# Altium schematic symbol library ADC10080_EVALUATION_BOARD.SchLib: 10 symbols
Pins are listed as number, name and electrical type; pins without a type are passive.

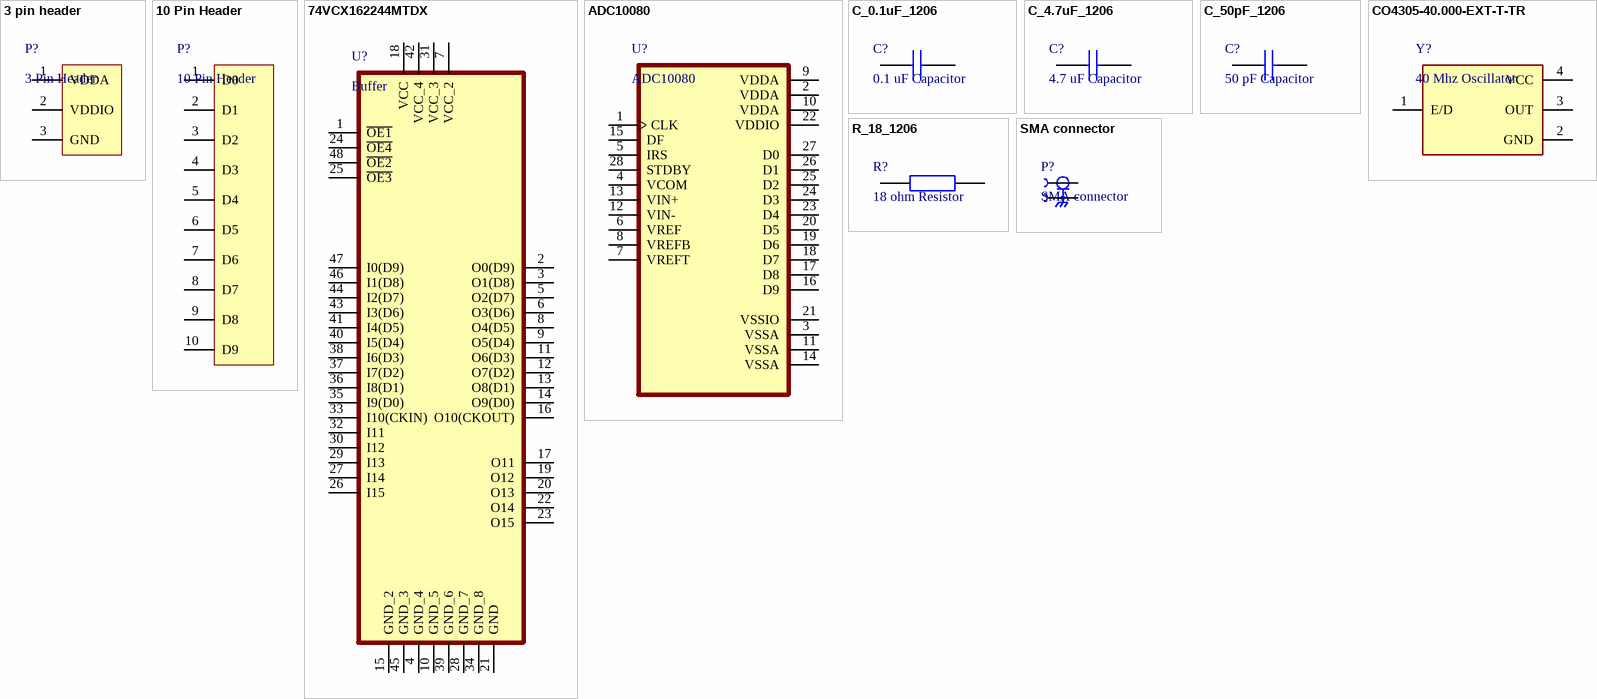
[diagram p0: symbols 3 pin header to SMA connector]

## 3 pin header
designator P?, comment 3 Pin Header
3 Pin Voltage Supply Header
footprint 3 pin header
pins: 1 VDDA (power), 2 VDDIO (power), 3 GND (power)

## 10 Pin Header
designator P?
10 Pin Output Header
footprint 10 Pin Header
pins: 1 D0 (power), 2 D1 (power), 3 D2 (power), 4 D3 (power), 5 D4 (power), 6 D5 (power), 7 D6, 8 D7, 9 D8, 10 D9

## 74VCX162244MTDX
designator U?, comment Buffer
Low Voltage 16-Bit Buffer/Line Driver / with 3.6V Tolerant Inputs and Outputs / and 26 Series Resistor in Outputs
footprint 74VCX162244MTDX
pins: 1 ~{OE1}, 2 O0(D9), 3 O1(D8), 4 GND_4, 5 O2(D7), 6 O3(D6), 7 VCC_2, 8 O4(D5), 9 O5(D4), 10 GND_5, 11 O6(D3), 12 O7(D2), 13 O8(D1), 14 O9(D0), 15 GND_2, 16 O10(CKOUT), 17 O11, 18 VCC, 19 O12, 20 O13, 21 GND, 22 O14, 23 O15, 24 ~{OE4}, 25 ~{OE3}, 26 I15, 27 I14, 28 GND_7, 29 I13, 30 I12, 31 VCC_3, 32 I11, 33 I10(CKIN), 34 GND_8, 35 I9(D0), 36 I8(D1), 37 I7(D2), 38 I6(D3), 39 GND_6, 40 I5(D4), 41 I4(D5), 42 VCC_4, 43 I3(D6), 44 I2(D7), 45 GND_3, 46 I1(D8), 47 I0(D9), 48 ~{OE2}

## ADC10080
designator U?
ADC10080 10-Bit, 80 MSPS, 3V, 78.6 mW A/D Converter
footprint AD10080
pins: 1 CLK, 2 VDDA, 3 VSSA, 4 VCOM, 5 IRS, 6 VREF, 7 VREFT, 8 VREFB, 9 VDDA, 10 VDDA, 11 VSSA, 12 VIN-, 13 VIN+, 14 VSSA, 15 DF, 16 D9, 17 D8, 18 D7, 19 D6, 20 D5, 21 VSSIO, 22 VDDIO, 23 D4, 24 D3, 25 D2, 26 D1, 27 D0, 28 STDBY

## C_0.1uF_1206
designator C?, comment 0.1 uF Capacitor
0.1 uF 1206 Capacitor
footprint C_1206
pins: 1, 2

## C_4.7uF_1206
designator C?, comment 4.7 uF Capacitor
4.7 uF 1206 Capacitor
footprint C_1206
pins: 1, 2

## C_50pF_1206
designator C?, comment 50 pF Capacitor
50 pF 1206 Capacitor
footprint C_1206
pins: 1, 2

## CO4305-40.000-EXT-T-TR
designator Y?, comment 40 Mhz Oscillator
40 Mhz 4 pin crystal oscillator
footprint CO4305-40.000-EXT-T-TR
pins: 1 E/D, 2 GND (power), 3 OUT, 4 VCC (power)

## R_18_1206
designator R?, comment 18 ohm Resistor
18 ohm 1206 Resistor
footprint R_1206
pins: 1, 2

## SMA connector
designator P?
footprint SMA CONNECTOR
pins: 1, S1 2, S2 2, S3 2, S4 2